# Altium footprint library Common-Parts-Library.PcbLib: 530 footprints (part 4 of 34)
Each footprint in its own frame and in the unit in brackets; x right, y up, seen from the top. Pads: shape width x height; smd on the part's side, far side on the other; paste and mask are expansions set on the pad; w line width, h text height; cw(c..) or ccw(c..) is an arc to the next point about the centre after c.
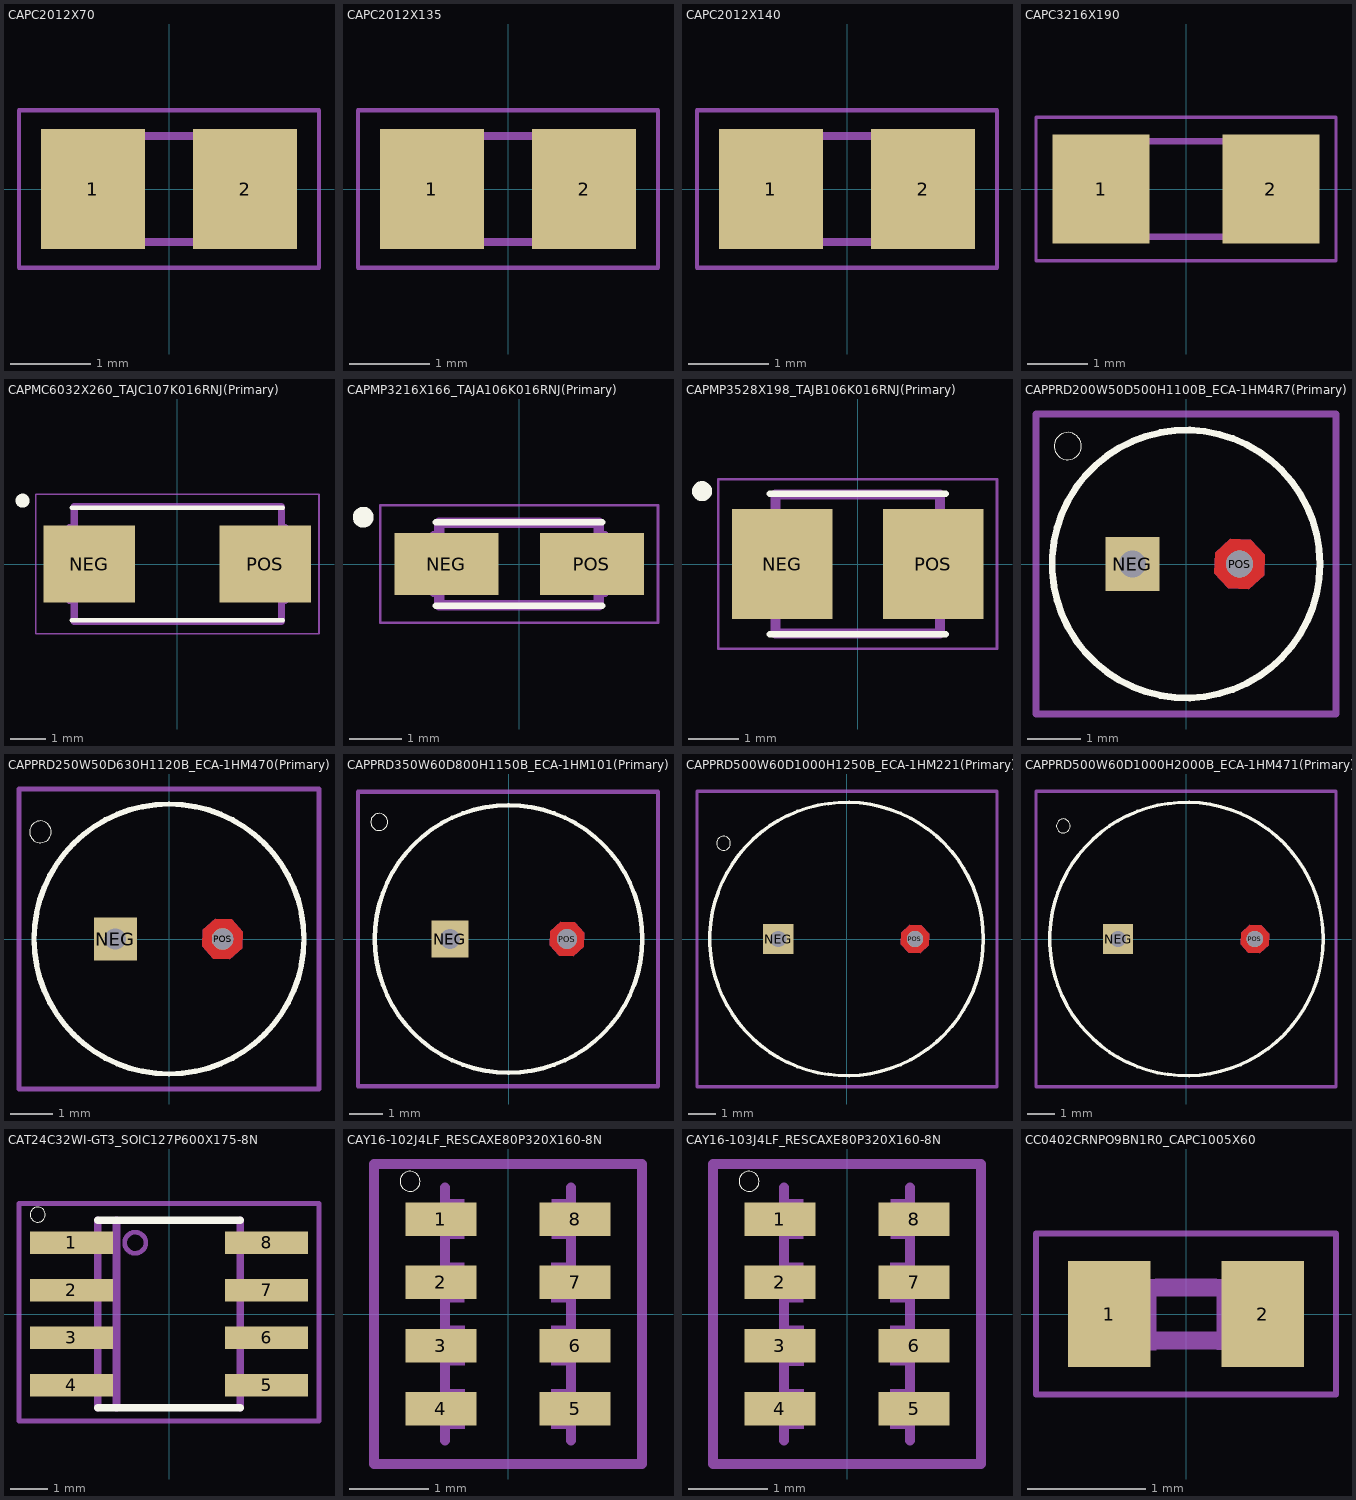
[diagram p3: the footprints below, top view; thin cyan lines are the x and y axes]

## CAPC2012X70 [mm]
pads (2):
  rect 1.3x1.5 smd: 1(-0.95,0) 2(0.95,0)
Mechanical 1:
  region: 0.357,0.726 1.106,0.726 1.106,-0.726 0.357,-0.726
  region: -1.093,0.726 -0.342,0.726 -0.342,-0.725 -1.093,-0.725
  lines w0.051: -1.873,-0.983 -1.873,0.983 1.873,0.983 1.873,-0.983 -1.873,-0.983
  lines w0.102: -0.381,0.66 0.381,0.66 ; -0.356,-0.66 0.381,-0.66

## CAPC2012X135 [mm]
pads (2):
  rect 1.3x1.5 smd: 1(-0.95,0) 2(0.95,0)
Mechanical 1:
  region: 0.356,0.726 1.106,0.726 1.106,-0.726 0.356,-0.726
  region: -1.094,0.726 -0.342,0.726 -0.342,-0.725 -1.094,-0.725
  lines w0.051: -1.873,-0.983 -1.873,0.983 1.873,0.983 1.873,-0.983 -1.873,-0.983
  lines w0.102: -0.381,0.66 0.381,0.66 ; -0.356,-0.66 0.381,-0.66

## CAPC2012X140 [mm]
pads (2):
  rect 1.3x1.5 smd: 1(-0.95,0) 2(0.95,0)
Mechanical 1:
  region: 0.356,0.726 1.106,0.726 1.106,-0.725 0.356,-0.725
  region: -1.095,0.726 -0.342,0.726 -0.342,-0.726 -1.095,-0.726
  lines w0.051: -1.873,-0.983 -1.873,0.983 1.873,0.983 1.873,-0.983 -1.873,-0.983
  lines w0.102: -0.381,0.66 0.381,0.66 ; -0.356,-0.66 0.381,-0.66

## CAPC3216X190 [mm]
pads (2):
  rect 1.6x1.8 smd: 1(-1.4,0) 2(1.4,0)
Mechanical 1:
  region: 0.954,0.851 1.702,0.851 1.702,-0.851 0.954,-0.851
  region: -1.705,0.849 -0.952,0.849 -0.952,-0.853 -1.705,-0.853
  lines w0.051: -2.473,-1.183 -2.473,1.183 2.473,1.183 2.473,-1.183 -2.473,-1.183
  lines w0.102: -0.965,-0.787 0.965,-0.787 ; -0.965,0.787 0.965,0.787

## CAPMC6032X260_TAJC107K016RNJ(Primary) [mm]
pads (2):
  rect 2.6x2.2 smd: NEG(-2.5,0) POS(2.5,0)
Top Overlay:
  circle w0.2: c-4.4,1.8 r0.1
  lines w0.127: -3,-1.6 3,-1.6 ; -3,1.6 3,1.6
Mechanical 1:
  lines w0.051: -4.023,-1.983 -4.023,1.983 4.023,1.983 4.023,-1.983 -4.023,-1.983
  lines w0.152: -3.073,-1.067 -3.073,1.067 ; 3.073,-1.067 3.073,1.067
  lines w0.203: -2.932,-1.637 2.957,-1.637 2.957,1.637 -2.932,1.637 -2.932,-1.637

## CAPMP3216X166_TAJA106K016RNJ(Primary) [mm]
pads (2):
  rect 2x1.2 smd: NEG(-1.4,0) POS(1.4,0)
Top Overlay:
  circle w0.2: c-3,0.9 r0.1
  lines w0.127: -1.6,-0.8 1.6,-0.8 ; -1.6,0.8 1.6,0.8
Mechanical 1:
  lines w0.051: -2.673,-1.133 -2.673,1.133 2.673,1.133 2.673,-1.133 -2.673,-1.133
  lines w0.152: -1.651,-0.559 -1.651,0.559 ; 1.651,-0.559 1.651,0.559
  lines w0.203: -1.535,-0.798 1.535,-0.798 1.535,0.798 -1.535,0.798 -1.535,-0.798

## CAPMP3528X198_TAJB106K016RNJ(Primary) [mm]
pads (2):
  rect 2x2.2 smd: NEG(-1.5,0) POS(1.5,0)
Top Overlay:
  circle w0.2: c-3.1,1.45 r0.1
  lines w0.127: -1.75,-1.4 1.75,-1.4 ; -1.75,1.4 1.75,1.4
Mechanical 1:
  lines w0.051: -2.773,-1.683 -2.773,1.683 2.773,1.683 2.773,-1.683 -2.773,-1.683
  lines w0.152: -1.778,-1.016 -1.778,1.016 ; 1.778,-1.016 1.778,1.016
  lines w0.203: -1.637,-1.383 1.637,-1.383 1.637,1.383 -1.637,1.383 -1.637,-1.383

## CAPPRD200W50D500H1100B_ECA-1HM4R7(Primary) [mm]
pads (2):
  rect 1.008x1.008 hole 0.5: NEG(-1,0)
  round 0.5 hole 0.5: POS(1,0)
Top Layer:
  region: 1.474,0.172 1.213,0.457 0.828,0.474 0.543,0.213 0.526,-0.172 0.787,-0.457 1.172,-0.474 1.457,-0.213
Bottom Layer:
  region: 1.474,0.172 1.213,0.457 0.828,0.474 0.543,0.213 0.526,-0.172 0.787,-0.457 1.172,-0.474 1.457,-0.213
Top Overlay:
  circle w0: c-2.206,2.201 r0.254
  circle w0.127: c0,0 r2.5
Mechanical 1:
  lines w0.127: -2.8,-2.8 -2.8,2.8 2.8,2.8 2.8,-2.8 -2.8,-2.8
Multi-Layer:
  region: 1.474,0.172 1.213,0.457 0.828,0.474 0.543,0.213 0.526,-0.172 0.787,-0.457 1.172,-0.474 1.457,-0.213

## CAPPRD250W50D630H1120B_ECA-1HM470(Primary) [mm]
pads (2):
  rect 1.008x1.008 hole 0.5: NEG(-1.25,0)
  round 0.5 hole 0.5: POS(1.25,0)
Top Layer:
  region: 1.724,0.172 1.463,0.457 1.078,0.474 0.793,0.213 0.776,-0.172 1.037,-0.457 1.422,-0.474 1.707,-0.213
Bottom Layer:
  region: 1.724,0.172 1.463,0.457 1.078,0.474 0.793,0.213 0.776,-0.172 1.037,-0.457 1.422,-0.474 1.707,-0.213
Top Overlay:
  circle w0: c-3,2.5 r0.254
  circle w0.127: c0,0 r3.15
Mechanical 1:
  lines w0.127: -3.5,-3.5 3.5,-3.5 3.5,3.5 -3.5,3.5 -3.5,-3.5
Multi-Layer:
  region: 1.724,0.172 1.463,0.457 1.078,0.474 0.793,0.213 0.776,-0.172 1.037,-0.457 1.422,-0.474 1.707,-0.213

## CAPPRD350W60D800H1150B_ECA-1HM101(Primary) [mm]
pads (2):
  rect 1.108x1.108 hole 0.6: NEG(-1.75,0)
  round 0.6 hole 0.6: POS(1.75,0)
Top Layer:
  region: 2.271,0.189 1.984,0.502 1.561,0.521 1.248,0.234 1.229,-0.189 1.516,-0.502 1.939,-0.521 2.252,-0.234
Bottom Layer:
  region: 2.271,0.189 1.984,0.502 1.561,0.521 1.248,0.234 1.229,-0.189 1.516,-0.502 1.939,-0.521 2.252,-0.234
Top Overlay:
  circle w0: c-3.865,3.5 r0.254
  circle w0.127: c0,0 r4
Mechanical 1:
  lines w0.127: -4.5,-4.4 -4.5,4.4 4.47,4.4 4.47,-4.4 -4.5,-4.4
Multi-Layer:
  region: 2.271,0.189 1.984,0.502 1.561,0.521 1.248,0.234 1.229,-0.189 1.516,-0.502 1.939,-0.521 2.252,-0.234

## CAPPRD500W60D1000H1250B_ECA-1HM221(Primary) [mm]
pads (2):
  rect 1.108x1.108 hole 0.6: NEG(-2.5,0)
  round 0.6 hole 0.6: POS(2.5,0)
Top Layer:
  region: 3.021,0.189 2.734,0.502 2.311,0.521 1.998,0.234 1.979,-0.189 2.266,-0.502 2.689,-0.521 3.002,-0.234
Bottom Layer:
  region: 3.021,0.189 2.734,0.502 2.311,0.521 1.998,0.234 1.979,-0.189 2.266,-0.502 2.689,-0.521 3.002,-0.234
Top Overlay:
  circle w0: c-4.5,3.5 r0.254
  circle w0.127: c0,0 r5
Mechanical 1:
  lines w0.127: -5.47,-5.4 5.5,-5.4 5.5,5.4 -5.47,5.4 -5.47,-5.4
Multi-Layer:
  region: 3.021,0.189 2.734,0.502 2.311,0.521 1.998,0.234 1.979,-0.189 2.266,-0.502 2.689,-0.521 3.002,-0.234

## CAPPRD500W60D1000H2000B_ECA-1HM471(Primary) [mm]
pads (2):
  rect 1.108x1.108 hole 0.6: NEG(-2.5,0)
  round 0.6 hole 0.6: POS(2.5,0)
Top Layer:
  region: 3.021,0.189 2.734,0.502 2.311,0.521 1.998,0.234 1.979,-0.189 2.266,-0.502 2.689,-0.521 3.002,-0.234
Bottom Layer:
  region: 3.021,0.189 2.734,0.502 2.311,0.521 1.998,0.234 1.979,-0.189 2.266,-0.502 2.689,-0.521 3.002,-0.234
Top Overlay:
  circle w0: c-4.5,4.135 r0.254
  circle w0.127: c0,0 r5
Mechanical 1:
  lines w0.127: -5.5,-5.4 -5.5,5.4 5.47,5.4 5.47,-5.4 -5.5,-5.4
Multi-Layer:
  region: 3.021,0.189 2.734,0.502 2.311,0.521 1.998,0.234 1.979,-0.189 2.266,-0.502 2.689,-0.521 3.002,-0.234

## CAT24C32WI-GT3_SOIC127P600X175-8N [mm]
pads (8):
  rect 2.2x0.6 smd: 1(-2.6,1.905) 2(-2.6,0.635) 3(-2.6,-0.635) 4(-2.6,-1.905) 5(2.6,-1.905) 6(2.6,-0.635) 7(2.6,0.635) 8(2.6,1.905)
Top Overlay:
  circle w0: c-3.5,2.65 r0.2
  lines w0.203: -1.9,-2.5 1.9,-2.5 ; -1.9,2.5 1.9,2.5
Mechanical 1:
  circle w0.127: c-0.9,1.9 r0.283
  region: 3.101,2.149 3.101,1.663 2.003,1.663 2.003,2.149
  region: 3.102,0.878 3.102,0.392 2.002,0.392 2.002,0.878
  region: 3.103,-0.393 3.103,-0.879 2.001,-0.879 2.001,-0.393
  region: 3.105,-1.665 3.105,-2.15 2,-2.15 2,-1.665
  region: -2,-1.66 -2,-2.155 -3.105,-2.155 -3.105,-1.66
  region: -2.001,-0.389 -2.001,-0.883 -3.103,-0.883 -3.103,-0.389
  region: -2.003,0.883 -2.003,0.387 -3.103,0.387 -3.103,0.883
  region: -2.004,2.154 -2.004,1.658 -3.102,1.658 -3.102,2.154
  lines w0.127: -4,-2.85 -4,2.95 4,2.95 4,-2.85 -4,-2.85
  lines w0.203: -1.9,-2.5 -1.9,2.5 ; -1.4,-2.5 -1.4,2.5 ; 1.9,-2.5 1.9,2.5

## CAY16-102J4LF_RESCAXE80P320X160-8N [mm]
pads (8):
  rect 0.9x0.425 smd: 1(-0.85,1.2) 2(-0.85,0.4) 3(-0.85,-0.4) 4(-0.85,-1.2) 5(0.85,-1.2) 6(0.85,-0.4) 7(0.85,0.4) 8(0.85,1.2)
Top Overlay:
  circle w0: c-1.24,1.68 r0.127
Mechanical 1:
  region: 0.552,0.952 0.552,1.451 0.849,1.451 0.849,0.952
  region: 0.551,0.151 0.551,0.65 0.85,0.65 0.85,0.151
  region: 0.55,-0.65 0.55,-0.151 0.851,-0.151 0.851,-0.65
  region: 0.549,-1.451 0.549,-0.952 0.852,-0.952 0.852,-1.451
  region: -0.55,-0.95 -0.55,-1.451 -0.851,-1.451 -0.851,-0.95
  region: -0.551,-0.149 -0.551,-0.652 -0.852,-0.652 -0.852,-0.149
  region: -0.551,0.651 -0.551,0.149 -0.851,0.149 -0.851,0.651
  region: -0.552,1.452 -0.552,0.95 -0.85,0.95 -0.85,1.452
  lines w0.127: -0.8,-1.6 -0.8,1.6 ; 0.8,-1.6 0.8,1.6 ; -1.7,-1.9 1.7,-1.9 1.7,1.9 -1.7,1.9 -1.7,-1.9

## CAY16-103J4LF_RESCAXE80P320X160-8N [mm]
pads (8):
  rect 0.9x0.425 smd: 1(-0.85,1.2) 2(-0.85,0.4) 3(-0.85,-0.4) 4(-0.85,-1.2) 5(0.85,-1.2) 6(0.85,-0.4) 7(0.85,0.4) 8(0.85,1.2)
Top Overlay:
  circle w0: c-1.24,1.68 r0.127
Mechanical 1:
  region: 0.552,0.952 0.552,1.451 0.849,1.451 0.849,0.952
  region: 0.55,0.15 0.55,0.65 0.85,0.65 0.85,0.15
  region: 0.55,-0.65 0.55,-0.151 0.851,-0.151 0.851,-0.65
  region: 0.549,-1.451 0.549,-0.952 0.852,-0.952 0.852,-1.451
  region: -0.55,-0.95 -0.55,-1.453 -0.853,-1.453 -0.853,-0.95
  region: -0.551,-0.149 -0.551,-0.652 -0.852,-0.652 -0.852,-0.149
  region: -0.552,0.652 -0.552,0.149 -0.851,0.149 -0.851,0.652
  region: -0.553,1.453 -0.553,0.95 -0.85,0.95 -0.85,1.453
  lines w0.127: -0.8,-1.6 -0.8,1.6 ; 0.8,-1.6 0.8,1.6 ; -1.7,-1.9 1.7,-1.9 1.7,1.9 -1.7,1.9 -1.7,-1.9

## CC0402CRNPO9BN1R0_CAPC1005X60 [mm]
pads (2):
  rect 0.7x0.9 smd: 1(-0.65,0) 2(0.65,0)
Mechanical 1:
  region: 0.259,0.295 0.559,0.295 0.559,-0.305 0.259,-0.305
  region: -0.555,0.295 -0.254,0.295 -0.254,-0.306 -0.555,-0.306
  lines w0.051: -1.273,-0.683 -1.273,0.683 1.273,0.683 1.273,-0.683 -1.273,-0.683
  lines w0.152: -0.245,-0.224 0.245,-0.224 ; -0.245,0.224 0.245,0.224